# Altium integrated library MagIC-FDSM (rev20a).IntLib: 10 symbols
Pins are listed as number, name and electrical type; pins without a type are passive.

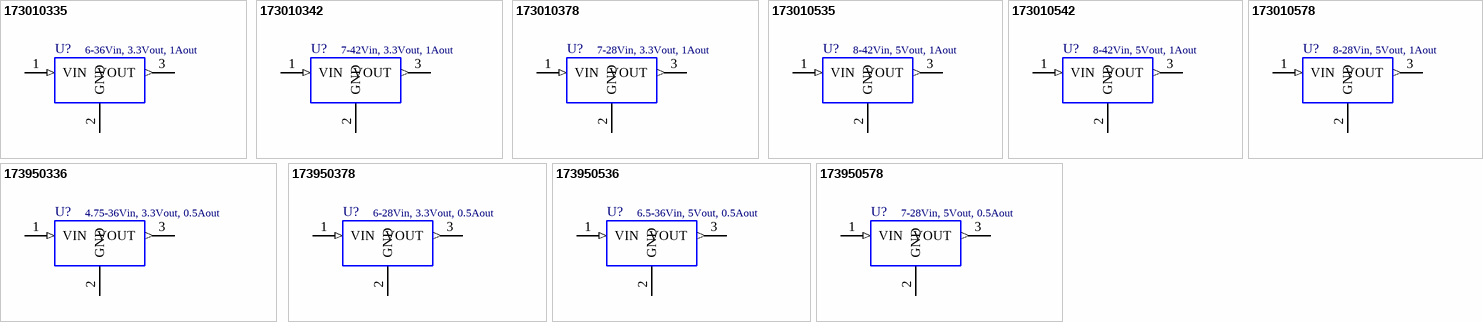
[diagram p0: symbols 173010335 to 173950578]

## 173010335
designator U?, comment 6-36Vin, 3.3Vout, 1Aout
MagI3C-FDSM Fixed Step Down Regulator Module, SIP-3, 6-36Vin, 3.3Vout, 1Aout; Manufacturer Part Number: 173010335; Output Current: 1A; Output Voltage: 3.3V; Input Voltage: 6-36V; ComponentLink1Description: Manufacturer; ComponentLink1URL: http://www.we-online.de; ComponentLink2Description: Datasheet; ComponentLink2URL: https://www.we-online.com/catalog/datasheet/173010335.pdf; Packaging: Tube; Published Date: March 2020; Mounting Technology: THT; Height: 10.4mm; Length: 11.6mm; Operating Temperature: -40 to +85degC; Publisher: Wurth Elektronik; Size: SIP-3; Width: 8mm
footprint 173010x35
pins: 1 VIN (in), 2 GND, 3 VOUT (out)

## 173010342
designator U?, comment 7-42Vin, 3.3Vout, 1Aout
MagI3C-FDSM Fixed Step Down Regulator Module, SIP-3, 7-42Vin, 3.3Vout, 1Aout; Manufacturer Part Number: 173010342; Output Current: 1A; Output Voltage: 3.3V; Input Voltage: 7-42V; ComponentLink1Description: Manufacturer; ComponentLink1URL: http://www.we-online.de; ComponentLink2Description: Datasheet; ComponentLink2URL: https://www.we-online.com/catalog/datasheet/173010342.pdf; Packaging: Tube; Published Date: March 2020; Mounting Technology: THT; Height: 10.5mm; Length: 11.6mm; Operating Temperature: -40 to +85degC; Publisher: Wurth Elektronik; Size: SIP-3; Width: 8.5mm
footprint 173010x42
pins: 1 VIN (in), 2 GND, 3 VOUT (out)

## 173010378
designator U?, comment 7-28Vin, 3.3Vout, 1Aout
MagI3C-FDSM Fixed Step Down Regulator Module, SIP-3, 7-28Vin, 3.3Vout, 1Aout; Manufacturer Part Number: 173010378; Output Current: 1A; Output Voltage: 3.3V; Input Voltage: 7-28V; ComponentLink1Description: Manufacturer; ComponentLink1URL: http://www.we-online.de; ComponentLink2Description: Datasheet; ComponentLink2URL: https://www.we-online.com/catalog/datasheet/173010378.pdf; Packaging: Tube; Published Date: March 2020; Mounting Technology: THT; Height: 10.5mm; Length: 11.6mm; Operating Temperature: -40 to +85degC; Publisher: Wurth Elektronik; Size: SIP-3; Width: 8.5mm
footprint 173010x78
pins: 1 VIN (in), 2 GND, 3 VOUT (out)

## 173010535
designator U?, comment 8-42Vin, 5Vout, 1Aout
MagI3C-FDSM Fixed Step Down Regulator Module, SIP-3, 8-36Vin, 5Vout, 1Aout; Manufacturer Part Number: 173010542; Output Current: 1A; Output Voltage: 5V; Input Voltage: 8-42V; ComponentLink1Description: Manufacturer; ComponentLink1URL: http://www.we-online.de; ComponentLink2Description: Datasheet; ComponentLink2URL: https://www.we-online.com/catalog/datasheet/173010542.pdf; Packaging: Tube; Published Date: March 2020; Mounting Technology: THT; Height: 10.5mm; Length: 11.6mm; Operating Temperature: -40 to +85degC; Publisher: Wurth Elektronik; Size: SIP-3; Width: 8.5mm
footprint 173010x35
pins: 1 VIN (in), 2 GND, 3 VOUT (out)

## 173010542
designator U?, comment 8-42Vin, 5Vout, 1Aout
MagI3C-FDSM Fixed Step Down Regulator Module, SIP-3, 8-42Vin, 5Vout, 1Aout; Manufacturer Part Number: 173010542; Output Current: 1A; Output Voltage: 5V; Input Voltage: 8-42V; ComponentLink1Description: Manufacturer; ComponentLink1URL: http://www.we-online.de; ComponentLink2Description: Datasheet; ComponentLink2URL: https://www.we-online.com/catalog/datasheet/173010542.pdf; Packaging: Tube; Published Date: March 2020; Mounting Technology: THT; Height: 10.5mm; Length: 11.6mm; Operating Temperature: -40 to +85degC; Publisher: Wurth Elektronik; Size: SIP-3; Width: 8.5mm
footprint 173010x42
pins: 1 VIN (in), 2 GND, 3 VOUT (out)

## 173010578
designator U?, comment 8-28Vin, 5Vout, 1Aout
MagI3C-FDSM Fixed Step Down Regulator Module, SIP-3, 8-28Vin, 5Vout, 1Aout; Manufacturer Part Number: 173010578; Output Current: 1A; Output Voltage: 5V; Input Voltage: 8-28V; ComponentLink1Description: Manufacturer; ComponentLink1URL: http://www.we-online.de; ComponentLink2Description: Datasheet; ComponentLink2URL: https://www.we-online.com/catalog/datasheet/173010578.pdf; Packaging: Tube; Published Date: March 2020; Mounting Technology: THT; Height: 10.5mm; Length: 11.6mm; Operating Temperature: -40 to +85degC; Publisher: Wurth Elektronik; Size: SIP-3; Width: 8.5mm
footprint 173010x78
pins: 1 VIN (in), 2 GND, 3 VOUT (out)

## 173950336
designator U?, comment 4.75-36Vin, 3.3Vout, 0.5Aout
MagI3C-FDSM Fixed Step Down Regulator Module, SIP-3, 4.75-36Vin, 3.3Vout, 0.5Aout; Manufacturer Part Number: 173950336; Output Current: 0.5A; Output Voltage: 3.3V; ComponentLink1Description: Manufacturer; ComponentLink1URL: http://www.we-online.de; ComponentLink2Description: Datasheet; ComponentLink2URL: https://www.we-online.com/catalog/datasheet/173950336.pdf; Packaging: Tube; Published Date: March 2020; Mounting Technology: THT; Height: 10.16mm; Input Voltage: 4.75-36V; Length: 11.6mm; Operating Temperature: -40 to +85degC; Publisher: Wurth Elektronik; Size: SIP-3; Width: 7.55mm
footprint 173950x36
pins: 1 VIN (in), 2 GND, 3 VOUT (out)

## 173950378
designator U?, comment 6-28Vin, 3.3Vout, 0.5Aout
MagI3C-FDSM Fixed Step Down Regulator Module, SIP-3, 6-28Vin, 3.3Vout, 0.5Aout; Manufacturer Part Number: 173950378; Output Current: 0.5A; Output Voltage: 3.3V; Input Voltage: 6-28V; ComponentLink1Description: Manufacturer; ComponentLink1URL: http://www.we-online.de; ComponentLink2Description: Datasheet; ComponentLink2URL: https://www.we-online.com/catalog/datasheet/173950378.pdf; Packaging: Tube; Published Date: March 2020; Mounting Technology: THT; Height: 10.5mm; Length: 11.6mm; Operating Temperature: -40 to +85degC; Publisher: Wurth Elektronik; Size: SIP-3; Width: 8.5mm
footprint 173950x78
pins: 1 VIN (in), 2 GND, 3 VOUT (out)

## 173950536
designator U?, comment 6.5-36Vin, 5Vout, 0.5Aout
MagI3C-FDSM Fixed Step Down Regulator Module, SIP-3, 6.5-36Vin, 5Vout, 0.5Aout; Manufacturer Part Number: 173950536; Output Current: 0.5A; Output Voltage: 5V; ComponentLink1Description: Manufacturer; ComponentLink1URL: http://www.we-online.de; ComponentLink2Description: Datasheet; ComponentLink2URL: https://www.we-online.com/catalog/datasheet/173950536.pdf; Packaging: Tube; Published Date: March 2020; Mounting Technology: THT; Height: 10.16mm; Input Voltage: 6.5-36V; Length: 11.6mm; Operating Temperature: -40 to +85degC; Publisher: Wurth Elektronik; Size: SIP-3; Width: 7.55mm
footprint 173950x36
pins: 1 VIN (in), 2 GND, 3 VOUT (out)

## 173950578
designator U?, comment 7-28Vin, 5Vout, 0.5Aout
MagI3C-FDSM Fixed Step Down Regulator Module, SIP-3, 7-28Vin, 5Vout, 0.5Aout; Manufacturer Part Number: 173950578; Output Current: 0.5A; Output Voltage: 5V; Input Voltage: 7-28V; ComponentLink1Description: Manufacturer; ComponentLink1URL: http://www.we-online.de; ComponentLink2Description: Datasheet; ComponentLink2URL: https://www.we-online.com/catalog/datasheet/173950578.pdf; Packaging: Tube; Published Date: March 2020; Mounting Technology: THT; Height: 10.5mm; Length: 11.6mm; Operating Temperature: -40 to +85degC; Publisher: Wurth Elektronik; Size: SIP-3; Width: 8.5mm
footprint 173950x78
pins: 1 VIN (in), 2 GND, 3 VOUT (out)